# EAGLE library part 74HC595 (library teensy-synth)
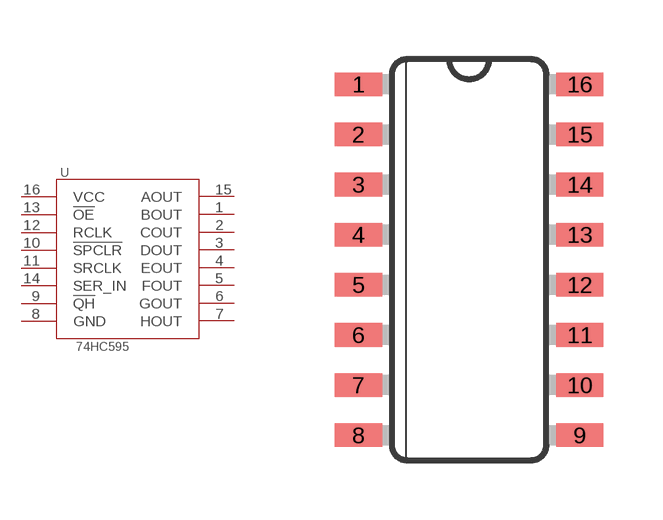
[diagram p2: symbol with the pads of SO16; footprint SO16]

Designator prefix U

## 74HC595 (VALUE: 74hc595)  [SO16]
1  BOUT
2  COUT
3  DOUT
4  EOUT
5  FOUT
6  GOUT
7  HOUT
8  GND
9  !QH
10  !SPCLR
11  SRCLK
12  RCLK
13  !OE
14  SER_IN
15  AOUT
16  VCC

## Footprint SO16 (pad centres in mm)
Small Outline package 150 mil
smd 1.2 x 0.6: 1 -2.8,4.445; 2 -2.8,3.175; 3 -2.8,1.905; 4 -2.8,0.635; 5 -2.8,-0.635; 6 -2.8,-1.905; 7 -2.8,-3.175; 8 -2.8,-4.445; 9 2.8,-4.445; 10 2.8,-3.175; 11 2.8,-1.905; 12 2.8,-0.635; 13 2.8,0.635; 14 2.8,1.905; 15 2.8,3.175; 16 2.8,4.445